# Altium integrated library Oscillators - Crystals.IntLib: 746 symbols (part 3 of 17)
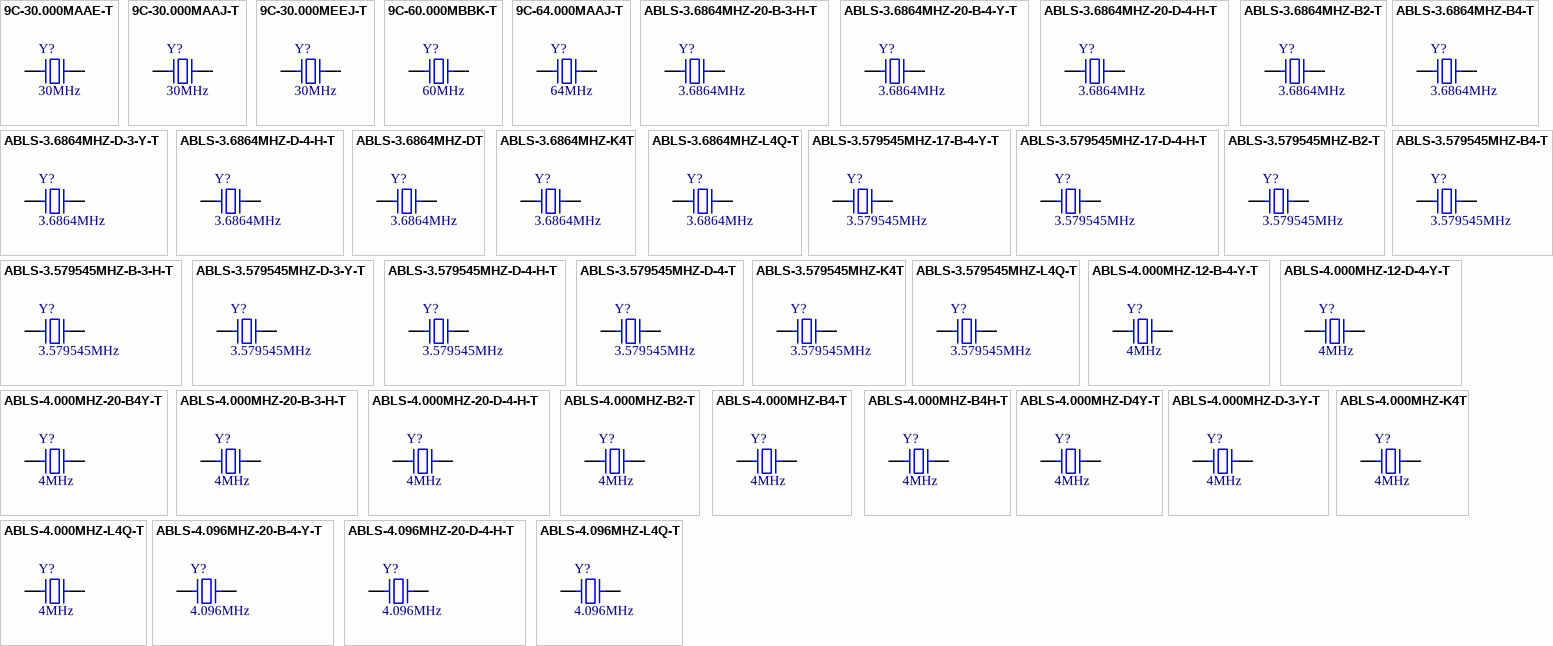
[diagram p20: symbols 9C-30.000MAAE-T to ABLS-4.096MHZ-L4Q-T]

## ABLS-3.6864MHZ-DT
designator Y?, comment 3.6864MHz
CRYSTAL 3.6864MHZ 18PF SMD; Part Number: ABLS-3.6864MHZ-DT; Manufacturer: Abracon LLC; ESR (Equivalent Series Resistance): 180 Ohms; Frequency Stability: ±50ppm; Operating Mode: Fundamental; ComponentLink1Description: Datasheet; ComponentLink1URL: https://abracon.com/Resonators/abls.pdf; ComponentLink2Description: DigiKey Link; ComponentLink2URL: http://digikey.com/product-detail/en/abracon-llc/ABLS-3.6864MHZ-DT/535-13441-1-ND/5980117; Frequency: 3.6864MHz; Frequency Tolerance: ±50ppm; Height - Seated (Max): 0.165" (4.20mm); LastUpdated: 9/2/2020 1:21:45 AM; Lifecycle Status: Active; Load Capacitance: 18pF; Minimum Order: 0; Mounting Type: Surface Mount; Operating Temperature: -40°C ~ 85°C; Package / Case: HC-49/US; Packaging: TapeAndReel; PartId: 120; Part Status: Active; Price: 0.18; Series: ABLS; Size / Dimension: 0.449" L x 0.185" W (11.40mm x 4.70mm); Supplier 1: DigiKey; Supplier Part Number 1: 535-13441-1-ND; Type: MHz Crystal; Value: 3.6864MHz
footprint ABRACON ABLS
pins: 1, 2

## ABLS-3.6864MHZ-K4T
designator Y?, comment 3.6864MHz
CRYSTAL 3.6864MHZ 18PF SMD; Part Number: ABLS-3.6864MHZ-K4T; Manufacturer: Abracon LLC; ESR (Equivalent Series Resistance): 180 Ohms; Frequency Stability: ±50ppm; Frequency Tolerance: ±30ppm; Operating Mode: Fundamental; ComponentLink1Description: Datasheet; ComponentLink1URL: https://abracon.com/Resonators/abls.pdf; ComponentLink2Description: DigiKey Link; ComponentLink2URL: http://digikey.com/product-detail/en/abracon-llc/ABLS-3.6864MHZ-K4T/535-9929-1-ND/2001552; Frequency: 3.6864MHz; Height - Seated (Max): 0.165" (4.20mm); LastUpdated: 9/2/2020 1:21:44 AM; Lifecycle Status: Active; Load Capacitance: 18pF; Minimum Order: 1; Mounting Type: Surface Mount; Operating Temperature: -40°C ~ 125°C; Package / Case: HC-49/US; Packaging: TapeAndReel; PartId: 245; Part Status: Active; Price: 0.41; Series: ABLS; Size / Dimension: 0.449" L x 0.185" W (11.40mm x 4.70mm); Supplier 1: DigiKey; Supplier Part Number 1: 535-9929-1-ND; Type: MHz Crystal; Value: 3.6864MHz
footprint ABRACON ABLS
pins: 1, 2

## ABLS-3.6864MHZ-L4Q-T
designator Y?, comment 3.6864MHz
CRYSTAL 3.6864MHZ 18PF SMD; Part Number: ABLS-3.6864MHZ-L4Q-T; Manufacturer: Abracon LLC; ESR (Equivalent Series Resistance): 180 Ohms; Frequency Stability: ±100ppm; Frequency Tolerance: ±30ppm; Operating Mode: Fundamental; ComponentLink1Description: Datasheet; ComponentLink1URL: https://abracon.com/Resonators/abls.pdf; ComponentLink2Description: DigiKey Link; ComponentLink2URL: http://digikey.com/product-detail/en/abracon-llc/ABLS-3.6864MHZ-L4Q-T/535-9893-1-ND/2001516; Frequency: 3.6864MHz; Height - Seated (Max): 0.165" (4.20mm); LastUpdated: 9/2/2020 1:21:44 AM; Lifecycle Status: Active; Load Capacitance: 18pF; Minimum Order: 1; Mounting Type: Surface Mount; Operating Temperature: -55°C ~ 125°C; Package / Case: HC-49/US; Packaging: TapeAndReel; PartId: 250; Part Status: Active; Price: 0.42; Series: ABLS; Size / Dimension: 0.449" L x 0.185" W (11.40mm x 4.70mm); Supplier 1: DigiKey; Supplier Part Number 1: 535-9893-1-ND; Type: MHz Crystal; Value: 3.6864MHz
footprint ABRACON ABLS
pins: 1, 2

## ABLS-3.579545MHZ-17-B-4-Y-T
designator Y?, comment 3.579545MHz
CRYSTAL 3.579545MHZ 17PF SMD; Part Number: ABLS-3.579545MHZ-17-B-4-Y-T; Manufacturer: Abracon LLC; ESR (Equivalent Series Resistance): 180 Ohms; Frequency Stability: ±30ppm; Operating Mode: Fundamental; ComponentLink1Description: Datasheet; ComponentLink1URL: https://abracon.com/Resonators/abls.pdf; ComponentLink2Description: DigiKey Link; ComponentLink2URL: http://digikey.com/product-detail/en/abracon-llc/ABLS-3.579545MHZ-17-B-4-Y-T/535-14908-1-ND/9997985; Frequency: 3.579545MHz; Frequency Tolerance: ±30ppm; Height - Seated (Max): 0.165" (4.20mm); LastUpdated: 9/2/2020 1:21:46 AM; Lifecycle Status: Active; Load Capacitance: 17pF; Minimum Order: 1; Mounting Type: Surface Mount; Operating Temperature: -20°C ~ 70°C; Package / Case: HC-49/US; Packaging: TapeAndReel; PartId: 49; Part Status: Active; Price: 0.18; Series: ABLS; Size / Dimension: 0.449" L x 0.185" W (11.40mm x 4.70mm); Supplier 1: DigiKey; Supplier Part Number 1: 535-14908-1-ND; Type: MHz Crystal; Value: 3.579545MHz
footprint ABRACON ABLS
pins: 1, 2

## ABLS-3.579545MHZ-17-D-4-H-T
designator Y?, comment 3.579545MHz
CRYSTAL 3.579545MHZ 17PF SMD; Part Number: ABLS-3.579545MHZ-17-D-4-H-T; Manufacturer: Abracon LLC; ESR (Equivalent Series Resistance): 180 Ohms; Frequency Stability: ±35ppm; Frequency Tolerance: ±30ppm; Operating Mode: Fundamental; ComponentLink1Description: Datasheet; ComponentLink1URL: https://abracon.com/Resonators/abls.pdf; ComponentLink2Description: DigiKey Link; ComponentLink2URL: http://digikey.com/product-detail/en/abracon-llc/ABLS-3.579545MHZ-17-D-4-H-T/535-14909-1-ND/9997986; Frequency: 3.579545MHz; Height - Seated (Max): 0.165" (4.20mm); LastUpdated: 9/2/2020 1:21:46 AM; Lifecycle Status: Active; Load Capacitance: 17pF; Minimum Order: 1; Mounting Type: Surface Mount; Operating Temperature: -40°C ~ 85°C; Package / Case: HC-49/US; Packaging: TapeAndReel; PartId: 84; Part Status: Active; Price: 0.29; Series: ABLS; Size / Dimension: 0.449" L x 0.185" W (11.40mm x 4.70mm); Supplier 1: DigiKey; Supplier Part Number 1: 535-14909-1-ND; Type: MHz Crystal; Value: 3.579545MHz
footprint ABRACON ABLS
pins: 1, 2

## ABLS-3.579545MHZ-B2-T
designator Y?, comment 3.579545MHz
CRYSTAL 3.579545MHZ 18PF SMD; Part Number: ABLS-3.579545MHZ-B2-T; Manufacturer: Abracon LLC; ESR (Equivalent Series Resistance): 180 Ohms; Frequency Stability: ±50ppm; Frequency Tolerance: ±20ppm; Operating Mode: Fundamental; ComponentLink1Description: Datasheet; ComponentLink1URL: https://abracon.com/Resonators/abls.pdf; ComponentLink2Description: DigiKey Link; ComponentLink2URL: http://digikey.com/product-detail/en/abracon-llc/ABLS-3.579545MHZ-B2-T/535-9081-1-ND/675598; Frequency: 3.579545MHz; Height - Seated (Max): 0.165" (4.20mm); LastUpdated: 9/2/2020 1:21:45 AM; Lifecycle Status: Active; Load Capacitance: 18pF; Minimum Order: 1; Mounting Type: Surface Mount; Operating Temperature: -20°C ~ 70°C; Package / Case: HC-49/US; Packaging: TapeAndReel; PartId: 136; Part Status: Active; Price: 0.24; Series: ABLS; Size / Dimension: 0.449" L x 0.185" W (11.40mm x 4.70mm); Supplier 1: DigiKey; Supplier Part Number 1: 535-9081-1-ND; Type: MHz Crystal; Value: 3.579545MHz
footprint ABRACON ABLS
pins: 1, 2

## ABLS-3.579545MHZ-B4-T
designator Y?, comment 3.579545MHz
CRYSTAL 3.579545MHZ 18PF SMD; Part Number: ABLS-3.579545MHZ-B4-T; Manufacturer: Abracon LLC; ESR (Equivalent Series Resistance): 180 Ohms; Frequency Stability: ±50ppm; Frequency Tolerance: ±30ppm; Operating Mode: Fundamental; ComponentLink1Description: Datasheet; ComponentLink1URL: https://abracon.com/Resonators/abls.pdf; ComponentLink2Description: DigiKey Link; ComponentLink2URL: http://digikey.com/product-detail/en/abracon-llc/ABLS-3.579545MHZ-B4-T/535-10200-1-ND/2184235; Frequency: 3.579545MHz; Height - Seated (Max): 0.165" (4.20mm); LastUpdated: 9/2/2020 1:21:45 AM; Lifecycle Status: Active; Load Capacitance: 18pF; Minimum Order: 1; Mounting Type: Surface Mount; Operating Temperature: -20°C ~ 70°C; Package / Case: HC-49/US; Packaging: TapeAndReel; PartId: 106; Part Status: Active; Price: 0.18; Series: ABLS; Size / Dimension: 0.449" L x 0.185" W (11.40mm x 4.70mm); Supplier 1: DigiKey; Supplier Part Number 1: 535-10200-1-ND; Type: MHz Crystal; Value: 3.579545MHz
footprint ABRACON ABLS
pins: 1, 2

## ABLS-3.579545MHZ-B-3-H-T
designator Y?, comment 3.579545MHz
CRYSTAL 3.579545MHZ 18PF SMD; Part Number: ABLS-3.579545MHZ-B-3-H-T; Manufacturer: Abracon LLC; ESR (Equivalent Series Resistance): 180 Ohms; Frequency Stability: ±35ppm; Frequency Tolerance: ±25ppm; Operating Mode: Fundamental; ComponentLink1Description: Datasheet; ComponentLink1URL: https://abracon.com/Resonators/abls.pdf; ComponentLink2Description: DigiKey Link; ComponentLink2URL: http://digikey.com/product-detail/en/abracon-llc/ABLS-3.579545MHZ-B-3-H-T/535-14910-1-ND/9997987; Frequency: 3.579545MHz; Height - Seated (Max): 0.165" (4.20mm); LastUpdated: 9/2/2020 1:21:46 AM; Lifecycle Status: Active; Load Capacitance: 18pF; Minimum Order: 1; Mounting Type: Surface Mount; Operating Temperature: -20°C ~ 70°C; Package / Case: HC-49/US; Packaging: TapeAndReel; PartId: 32; Part Status: Active; Price: 0.12; Series: ABLS; Size / Dimension: 0.449" L x 0.185" W (11.40mm x 4.70mm); Supplier 1: DigiKey; Supplier Part Number 1: 535-14910-1-ND; Type: MHz Crystal; Value: 3.579545MHz
footprint ABRACON ABLS
pins: 1, 2

## ABLS-3.579545MHZ-D-3-Y-T
designator Y?, comment 3.579545MHz
CRYSTAL 3.579545MHZ 18PF SMD; Part Number: ABLS-3.579545MHZ-D-3-Y-T; Manufacturer: Abracon LLC; ESR (Equivalent Series Resistance): 180 Ohms; Frequency Stability: ±30ppm; Frequency Tolerance: ±25ppm; Operating Mode: Fundamental; ComponentLink1Description: Datasheet; ComponentLink1URL: https://abracon.com/Resonators/abls.pdf; ComponentLink2Description: DigiKey Link; ComponentLink2URL: http://digikey.com/product-detail/en/abracon-llc/ABLS-3.579545MHZ-D-3-Y-T/535-14911-1-ND/9997988; Frequency: 3.579545MHz; Height - Seated (Max): 0.165" (4.20mm); LastUpdated: 9/2/2020 1:21:46 AM; Lifecycle Status: Active; Load Capacitance: 18pF; Minimum Order: 1; Mounting Type: Surface Mount; Operating Temperature: -40°C ~ 85°C; Package / Case: HC-49/US; Packaging: TapeAndReel; PartId: 66; Part Status: Active; Price: 0.12; Series: ABLS; Size / Dimension: 0.449" L x 0.185" W (11.40mm x 4.70mm); Supplier 1: DigiKey; Supplier Part Number 1: 535-14911-1-ND; Type: MHz Crystal; Value: 3.579545MHz
footprint ABRACON ABLS
pins: 1, 2

## ABLS-3.579545MHZ-D-4-H-T
designator Y?, comment 3.579545MHz
CRYSTAL 3.579545MHZ 18PF SMD; Part Number: ABLS-3.579545MHZ-D-4-H-T; Manufacturer: Abracon LLC; ESR (Equivalent Series Resistance): 180 Ohms; Frequency Stability: ±35ppm; Frequency Tolerance: ±30ppm; Operating Mode: Fundamental; ComponentLink1Description: Datasheet; ComponentLink1URL: https://abracon.com/Resonators/abls.pdf; ComponentLink2Description: DigiKey Link; ComponentLink2URL: http://digikey.com/product-detail/en/abracon-llc/ABLS-3.579545MHZ-D-4-H-T/535-14912-1-ND/9997989; Frequency: 3.579545MHz; Height - Seated (Max): 0.165" (4.20mm); LastUpdated: 9/2/2020 1:21:45 AM; Lifecycle Status: Active; Load Capacitance: 18pF; Minimum Order: 1; Mounting Type: Surface Mount; Operating Temperature: -40°C ~ 85°C; Package / Case: HC-49/US; Packaging: TapeAndReel; PartId: 152; Part Status: Active; Price: 0.36; Series: ABLS; Size / Dimension: 0.449" L x 0.185" W (11.40mm x 4.70mm); Supplier 1: DigiKey; Supplier Part Number 1: 535-14912-1-ND; Type: MHz Crystal; Value: 3.579545MHz
footprint ABRACON ABLS
pins: 1, 2

## ABLS-3.579545MHZ-D-4-T
designator Y?, comment 3.579545MHz
CRYSTAL 3.579545MHZ 18PF SMD; Part Number: ABLS-3.579545MHZ-D-4-T; Manufacturer: Abracon LLC; ESR (Equivalent Series Resistance): 180 Ohms; Frequency Stability: ±50ppm; Frequency Tolerance: ±30ppm; Operating Mode: Fundamental; ComponentLink1Description: Datasheet; ComponentLink1URL: https://abracon.com/Resonators/abls.pdf; ComponentLink2Description: DigiKey Link; ComponentLink2URL: http://digikey.com/product-detail/en/abracon-llc/ABLS-3.579545MHZ-D-4-T/535-13440-1-ND/5980116; Frequency: 3.579545MHz; Height - Seated (Max): 0.165" (4.20mm); LastUpdated: 9/2/2020 1:21:46 AM; Lifecycle Status: Active; Load Capacitance: 18pF; Minimum Order: 0; Mounting Type: Surface Mount; Operating Temperature: -40°C ~ 85°C; Package / Case: HC-49/US; Packaging: TapeAndReel; PartId: 3; Part Status: Active; Price: 0.18; Series: ABLS; Size / Dimension: 0.449" L x 0.185" W (11.40mm x 4.70mm); Supplier 1: DigiKey; Supplier Part Number 1: 535-13440-1-ND; Type: MHz Crystal; Value: 3.579545MHz
footprint ABRACON ABLS
pins: 1, 2

## ABLS-3.579545MHZ-K4T
designator Y?, comment 3.579545MHz
CRYSTAL 3.579545MHZ 18PF SMD; Part Number: ABLS-3.579545MHZ-K4T; Manufacturer: Abracon LLC; ESR (Equivalent Series Resistance): 180 Ohms; Frequency Stability: ±50ppm; Frequency Tolerance: ±30ppm; Operating Mode: Fundamental; ComponentLink1Description: Datasheet; ComponentLink1URL: https://abracon.com/Resonators/abls.pdf; ComponentLink2Description: DigiKey Link; ComponentLink2URL: http://digikey.com/product-detail/en/abracon-llc/ABLS-3.579545MHZ-K4T/535-9928-1-ND/2001551; Frequency: 3.579545MHz; Height - Seated (Max): 0.165" (4.20mm); LastUpdated: 9/2/2020 1:21:44 AM; Lifecycle Status: Active; Load Capacitance: 18pF; Minimum Order: 1; Mounting Type: Surface Mount; Operating Temperature: -40°C ~ 125°C; Package / Case: HC-49/US; Packaging: TapeAndReel; PartId: 197; Part Status: Active; Price: 0.41; Series: ABLS; Size / Dimension: 0.449" L x 0.185" W (11.40mm x 4.70mm); Supplier 1: DigiKey; Supplier Part Number 1: 535-9928-1-ND; Type: MHz Crystal; Value: 3.579545MHz
footprint ABRACON ABLS
pins: 1, 2

## ABLS-3.579545MHZ-L4Q-T
designator Y?, comment 3.579545MHz
CRYSTAL 3.579545MHZ 18PF SMD; Part Number: ABLS-3.579545MHZ-L4Q-T; Manufacturer: Abracon LLC; ESR (Equivalent Series Resistance): 180 Ohms; Frequency Stability: ±100ppm; Frequency Tolerance: ±30ppm; Operating Mode: Fundamental; ComponentLink1Description: Datasheet; ComponentLink1URL: https://abracon.com/Resonators/abls.pdf; ComponentLink2Description: DigiKey Link; ComponentLink2URL: http://digikey.com/product-detail/en/abracon-llc/ABLS-3.579545MHZ-L4Q-T/535-9892-1-ND/2001515; Frequency: 3.579545MHz; Height - Seated (Max): 0.165" (4.20mm); LastUpdated: 9/2/2020 1:21:44 AM; Lifecycle Status: Active; Load Capacitance: 18pF; Minimum Order: 1; Mounting Type: Surface Mount; Operating Temperature: -55°C ~ 125°C; Package / Case: HC-49/US; Packaging: TapeAndReel; PartId: 251; Part Status: Active; Price: 0.42; Series: ABLS; Size / Dimension: 0.449" L x 0.185" W (11.40mm x 4.70mm); Supplier 1: DigiKey; Supplier Part Number 1: 535-9892-1-ND; Type: MHz Crystal; Value: 3.579545MHz
footprint ABRACON ABLS
pins: 1, 2

## ABLS-4.000MHZ-12-B-4-Y-T
designator Y?, comment 4MHz
CRYSTAL 4.0000MHZ 12PF SMD; Part Number: ABLS-4.000MHZ-12-B-4-Y-T; Manufacturer: Abracon LLC; ESR (Equivalent Series Resistance): 180 Ohms; Frequency Stability: ±30ppm; Operating Mode: Fundamental; ComponentLink1Description: Datasheet; ComponentLink1URL: https://abracon.com/Resonators/abls.pdf; ComponentLink2Description: DigiKey Link; ComponentLink2URL: http://digikey.com/product-detail/en/abracon-llc/ABLS-4.000MHZ-12-B-4-Y-T/535-14917-1-ND/9997994; Frequency: 4MHz; Frequency Tolerance: ±30ppm; Height - Seated (Max): 0.165" (4.20mm); LastUpdated: 9/2/2020 1:21:45 AM; Lifecycle Status: Active; Load Capacitance: 12pF; Minimum Order: 1; Mounting Type: Surface Mount; Operating Temperature: -20°C ~ 70°C; Package / Case: HC-49/US; Packaging: TapeAndReel; PartId: 150; Part Status: Active; Price: 0.17; Series: ABLS; Size / Dimension: 0.449" L x 0.185" W (11.40mm x 4.70mm); Supplier 1: DigiKey; Supplier Part Number 1: 535-14917-1-ND; Type: MHz Crystal; Value: 4MHz
footprint ABRACON ABLS
pins: 1, 2

## ABLS-4.000MHZ-12-D-4-Y-T
designator Y?, comment 4MHz
CRYSTAL 4.0000MHZ 12PF SMD; Part Number: ABLS-4.000MHZ-12-D-4-Y-T; Manufacturer: Abracon LLC; ESR (Equivalent Series Resistance): 180 Ohms; Frequency Stability: ±30ppm; Operating Mode: Fundamental; ComponentLink1Description: Datasheet; ComponentLink1URL: https://abracon.com/Resonators/abls.pdf; ComponentLink2Description: DigiKey Link; ComponentLink2URL: http://digikey.com/product-detail/en/abracon-llc/ABLS-4.000MHZ-12-D-4-Y-T/535-14918-1-ND/9997995; Frequency: 4MHz; Frequency Tolerance: ±30ppm; Height - Seated (Max): 0.165" (4.20mm); LastUpdated: 9/2/2020 1:21:45 AM; Lifecycle Status: Active; Load Capacitance: 12pF; Minimum Order: 1; Mounting Type: Surface Mount; Operating Temperature: -40°C ~ 85°C; Package / Case: HC-49/US; Packaging: TapeAndReel; PartId: 186; Part Status: Active; Price: 0.27; Series: ABLS; Size / Dimension: 0.449" L x 0.185" W (11.40mm x 4.70mm); Supplier 1: DigiKey; Supplier Part Number 1: 535-14918-1-ND; Type: MHz Crystal; Value: 4MHz
footprint ABRACON ABLS
pins: 1, 2

## ABLS-4.000MHZ-20-B4Y-T
designator Y?, comment 4MHz
CRYSTAL 4.000MHZ 20PF SMD; Part Number: ABLS-4.000MHZ-20-B4Y-T; Manufacturer: Abracon LLC; ESR (Equivalent Series Resistance): 180 Ohms; Frequency Stability: ±30ppm; Operating Mode: Fundamental; ComponentLink1Description: Datasheet; ComponentLink1URL: https://abracon.com/Resonators/abls.pdf; ComponentLink2Description: DigiKey Link; ComponentLink2URL: http://digikey.com/product-detail/en/abracon-llc/ABLS-4.000MHZ-20-B4Y-T/535-14359-1-ND/8582120; Frequency: 4MHz; Frequency Tolerance: ±30ppm; Height - Seated (Max): 0.165" (4.20mm); LastUpdated: 9/2/2020 1:21:44 AM; Lifecycle Status: Active; Load Capacitance: 20pF; Minimum Order: 1; Mounting Type: Surface Mount; Operating Temperature: -20°C ~ 70°C; Package / Case: HC-49/US; Packaging: TapeAndReel; PartId: 260; Part Status: Active; Price: 0.24; Series: ABLS; Size / Dimension: 0.449" L x 0.185" W (11.40mm x 4.70mm); Supplier 1: DigiKey; Supplier Part Number 1: 535-14359-1-ND; Type: MHz Crystal; Value: 4MHz
footprint ABRACON ABLS
pins: 1, 2

## ABLS-4.000MHZ-20-B-3-H-T
designator Y?, comment 4MHz
CRYSTAL 4.0000MHZ 20PF SMD; Part Number: ABLS-4.000MHZ-20-B-3-H-T; Manufacturer: Abracon LLC; ESR (Equivalent Series Resistance): 180 Ohms; Frequency Stability: ±35ppm; Frequency Tolerance: ±25ppm; Operating Mode: Fundamental; ComponentLink1Description: Datasheet; ComponentLink1URL: https://abracon.com/Resonators/abls.pdf; ComponentLink2Description: DigiKey Link; ComponentLink2URL: http://digikey.com/product-detail/en/abracon-llc/ABLS-4.000MHZ-20-B-3-H-T/535-14919-1-ND/9997996; Frequency: 4MHz; Height - Seated (Max): 0.165" (4.20mm); LastUpdated: 9/2/2020 1:21:46 AM; Lifecycle Status: Active; Load Capacitance: 20pF; Minimum Order: 1; Mounting Type: Surface Mount; Operating Temperature: -20°C ~ 70°C; Package / Case: HC-49/US; Packaging: TapeAndReel; PartId: 63; Part Status: Active; Price: 0.11; Series: ABLS; Size / Dimension: 0.449" L x 0.185" W (11.40mm x 4.70mm); Supplier 1: DigiKey; Supplier Part Number 1: 535-14919-1-ND; Type: MHz Crystal; Value: 4MHz
footprint ABRACON ABLS
pins: 1, 2

## ABLS-4.000MHZ-20-D-4-H-T
designator Y?, comment 4MHz
CRYSTAL 4.0000MHZ 20PF SMD; Part Number: ABLS-4.000MHZ-20-D-4-H-T; Manufacturer: Abracon LLC; ESR (Equivalent Series Resistance): 180 Ohms; Frequency Stability: ±35ppm; Frequency Tolerance: ±30ppm; Operating Mode: Fundamental; ComponentLink1Description: Datasheet; ComponentLink1URL: https://abracon.com/Resonators/abls.pdf; ComponentLink2Description: DigiKey Link; ComponentLink2URL: http://digikey.com/product-detail/en/abracon-llc/ABLS-4.000MHZ-20-D-4-H-T/535-14920-1-ND/9997997; Frequency: 4MHz; Height - Seated (Max): 0.165" (4.20mm); LastUpdated: 9/2/2020 1:21:46 AM; Lifecycle Status: Active; Load Capacitance: 20pF; Minimum Order: 1; Mounting Type: Surface Mount; Operating Temperature: -40°C ~ 85°C; Package / Case: HC-49/US; Packaging: TapeAndReel; PartId: 85; Part Status: Active; Price: 0.29; Series: ABLS; Size / Dimension: 0.449" L x 0.185" W (11.40mm x 4.70mm); Supplier 1: DigiKey; Supplier Part Number 1: 535-14920-1-ND; Type: MHz Crystal; Value: 4MHz
footprint ABRACON ABLS
pins: 1, 2

## ABLS-4.000MHZ-B2-T
designator Y?, comment 4MHz
CRYSTAL 4.0000MHZ 18PF SMD; Part Number: ABLS-4.000MHZ-B2-T; Manufacturer: Abracon LLC; ESR (Equivalent Series Resistance): 180 Ohms; Frequency Stability: ±50ppm; Frequency Tolerance: ±20ppm; Operating Mode: Fundamental; ComponentLink1Description: Datasheet; ComponentLink1URL: https://abracon.com/Resonators/abls.pdf; ComponentLink2Description: DigiKey Link; ComponentLink2URL: http://digikey.com/product-detail/en/abracon-llc/ABLS-4.000MHZ-B2-T/535-9085-1-ND/675602; Frequency: 4MHz; Height - Seated (Max): 0.165" (4.20mm); LastUpdated: 9/2/2020 1:21:45 AM; Lifecycle Status: Active; Load Capacitance: 18pF; Minimum Order: 1; Mounting Type: Surface Mount; Operating Temperature: -20°C ~ 70°C; Package / Case: HC-49/US; Packaging: TapeAndReel; PartId: 127; Part Status: Active; Price: 0.24; Series: ABLS; Size / Dimension: 0.449" L x 0.185" W (11.40mm x 4.70mm); Supplier 1: DigiKey; Supplier Part Number 1: 535-9085-1-ND; Type: MHz Crystal; Value: 4MHz
footprint ABRACON ABLS
pins: 1, 2

## ABLS-4.000MHZ-B4-T
designator Y?, comment 4MHz
CRYSTAL 4.0000MHZ 18PF SMD; Part Number: ABLS-4.000MHZ-B4-T; Manufacturer: Abracon LLC; ESR (Equivalent Series Resistance): 180 Ohms; Frequency Stability: ±50ppm; Frequency Tolerance: ±30ppm; Operating Mode: Fundamental; ComponentLink1Description: Datasheet; ComponentLink1URL: https://abracon.com/Resonators/abls.pdf; ComponentLink2Description: DigiKey Link; ComponentLink2URL: http://digikey.com/product-detail/en/abracon-llc/ABLS-4.000MHZ-B4-T/535-10202-1-ND/2184237; Frequency: 4MHz; Height - Seated (Max): 0.165" (4.20mm); LastUpdated: 9/2/2020 1:21:45 AM; Lifecycle Status: Active; Load Capacitance: 18pF; Minimum Order: 1; Mounting Type: Surface Mount; Operating Temperature: -20°C ~ 70°C; Package / Case: HC-49/US; Packaging: TapeAndReel; PartId: 95; Part Status: Active; Price: 0.18; Series: ABLS; Size / Dimension: 0.449" L x 0.185" W (11.40mm x 4.70mm); Supplier 1: DigiKey; Supplier Part Number 1: 535-10202-1-ND; Type: MHz Crystal; Value: 4MHz
footprint ABRACON ABLS
pins: 1, 2

## ABLS-4.000MHZ-B4H-T
designator Y?, comment 4MHz
CRYSTAL 4.0000MHZ 18PF SMD; Part Number: ABLS-4.000MHZ-B4H-T; Manufacturer: Abracon LLC; ESR (Equivalent Series Resistance): 180 Ohms; Frequency Stability: ±35ppm; Frequency Tolerance: ±30ppm; Operating Mode: Fundamental; ComponentLink1Description: Datasheet; ComponentLink1URL: https://abracon.com/Resonators/abls.pdf; ComponentLink2Description: DigiKey Link; ComponentLink2URL: http://digikey.com/product-detail/en/abracon-llc/ABLS-4.000MHZ-B4H-T/535-14858-1-ND/9997935; Frequency: 4MHz; Height - Seated (Max): 0.165" (4.20mm); LastUpdated: 9/2/2020 1:21:46 AM; Lifecycle Status: Active; Load Capacitance: 18pF; Minimum Order: 0; Mounting Type: Surface Mount; Operating Temperature: -20°C ~ 70°C; Package / Case: HC-49/US; Packaging: TapeAndReel; PartId: 47; Part Status: Active; Price: 0.18; Series: ABLS; Size / Dimension: 0.449" L x 0.185" W (11.40mm x 4.70mm); Supplier 1: DigiKey; Supplier Part Number 1: 535-14858-1-ND; Type: MHz Crystal; Value: 4MHz
footprint ABRACON ABLS
pins: 1, 2

## ABLS-4.000MHZ-D4Y-T
designator Y?, comment 4MHz
CRYSTAL 4.0000MHZ 18PF SMD; Part Number: ABLS-4.000MHZ-D4Y-T; Manufacturer: Abracon LLC; ESR (Equivalent Series Resistance): 180 Ohms; Frequency Stability: ±30ppm; Operating Mode: Fundamental; ComponentLink1Description: Datasheet; ComponentLink1URL: https://abracon.com/Resonators/abls.pdf; ComponentLink2Description: DigiKey Link; ComponentLink2URL: http://digikey.com/product-detail/en/abracon-llc/ABLS-4.000MHZ-D4Y-T/535-15001-1-ND/9998078; Frequency: 4MHz; Frequency Tolerance: ±30ppm; Height - Seated (Max): 0.165" (4.20mm); LastUpdated: 9/2/2020 1:21:44 AM; Lifecycle Status: Active; Load Capacitance: 18pF; Minimum Order: 0; Mounting Type: Surface Mount; Operating Temperature: -40°C ~ 85°C; Package / Case: HC-49/US; Packaging: TapeAndReel; PartId: 231; Part Status: Active; Price: 0.27; Series: ABLS; Size / Dimension: 0.449" L x 0.185" W (11.40mm x 4.70mm); Supplier 1: DigiKey; Supplier Part Number 1: 535-15001-1-ND; Type: MHz Crystal; Value: 4MHz
footprint ABRACON ABLS
pins: 1, 2

## ABLS-4.000MHZ-D-3-Y-T
designator Y?, comment 4MHz
CRYSTAL 4.0000MHZ 18PF SMD; Part Number: ABLS-4.000MHZ-D-3-Y-T; Manufacturer: Abracon LLC; ESR (Equivalent Series Resistance): 180 Ohms; Frequency Stability: ±30ppm; Frequency Tolerance: ±25ppm; Operating Mode: Fundamental; ComponentLink1Description: Datasheet; ComponentLink1URL: https://abracon.com/Resonators/abls.pdf; ComponentLink2Description: DigiKey Link; ComponentLink2URL: http://digikey.com/product-detail/en/abracon-llc/ABLS-4.000MHZ-D-3-Y-T/535-14921-1-ND/9997998; Frequency: 4MHz; Height - Seated (Max): 0.165" (4.20mm); LastUpdated: 9/2/2020 1:21:46 AM; Lifecycle Status: Active; Load Capacitance: 18pF; Minimum Order: 1; Mounting Type: Surface Mount; Operating Temperature: -40°C ~ 85°C; Package / Case: HC-49/US; Packaging: TapeAndReel; PartId: 69; Part Status: Active; Price: 0.12; Series: ABLS; Size / Dimension: 0.449" L x 0.185" W (11.40mm x 4.70mm); Supplier 1: DigiKey; Supplier Part Number 1: 535-14921-1-ND; Type: MHz Crystal; Value: 4MHz
footprint ABRACON ABLS
pins: 1, 2

## ABLS-4.000MHZ-K4T
designator Y?, comment 4MHz
CRYSTAL 4.0000MHZ 18PF SMD; Part Number: ABLS-4.000MHZ-K4T; Manufacturer: Abracon LLC; ESR (Equivalent Series Resistance): 180 Ohms; Frequency Stability: ±50ppm; Frequency Tolerance: ±30ppm; Operating Mode: Fundamental; ComponentLink1Description: Datasheet; ComponentLink1URL: https://abracon.com/Resonators/abls.pdf; ComponentLink2Description: DigiKey Link; ComponentLink2URL: http://digikey.com/product-detail/en/abracon-llc/ABLS-4.000MHZ-K4T/535-9930-1-ND/2001553; Frequency: 4MHz; Height - Seated (Max): 0.165" (4.20mm); LastUpdated: 9/2/2020 1:21:44 AM; Lifecycle Status: Active; Load Capacitance: 18pF; Minimum Order: 1; Mounting Type: Surface Mount; Operating Temperature: -40°C ~ 125°C; Package / Case: HC-49/US; Packaging: TapeAndReel; PartId: 242; Part Status: Active; Price: 0.41; Series: ABLS; Size / Dimension: 0.449" L x 0.185" W (11.40mm x 4.70mm); Supplier 1: DigiKey; Supplier Part Number 1: 535-9930-1-ND; Type: MHz Crystal; Value: 4MHz
footprint ABRACON ABLS
pins: 1, 2

## ABLS-4.000MHZ-L4Q-T
designator Y?, comment 4MHz
CRYSTAL 4.0000MHZ 18PF SMD; Part Number: ABLS-4.000MHZ-L4Q-T; Manufacturer: Abracon LLC; ESR (Equivalent Series Resistance): 180 Ohms; Frequency Stability: ±100ppm; Frequency Tolerance: ±30ppm; Operating Mode: Fundamental; ComponentLink1Description: Datasheet; ComponentLink1URL: https://abracon.com/Resonators/abls.pdf; ComponentLink2Description: DigiKey Link; ComponentLink2URL: http://digikey.com/product-detail/en/abracon-llc/ABLS-4.000MHZ-L4Q-T/535-9894-2-ND/2001261; Frequency: 4MHz; Height - Seated (Max): 0.165" (4.20mm); LastUpdated: 9/2/2020 1:21:44 AM; Lifecycle Status: Active; Load Capacitance: 18pF; Minimum Order: 0; Mounting Type: Surface Mount; Operating Temperature: -55°C ~ 125°C; Package / Case: HC-49/US; Packaging: TapeAndReel; PartId: 205; Part Status: Active; Price: 0.42; Series: ABLS; Size / Dimension: 0.449" L x 0.185" W (11.40mm x 4.70mm); Supplier 1: DigiKey; Supplier Part Number 1: 535-9894-2-ND; Type: MHz Crystal; Value: 4MHz
footprint ABRACON ABLS
pins: 1, 2

## ABLS-4.096MHZ-20-B-4-Y-T
designator Y?, comment 4.096MHz
CRYSTAL 4.0960MHZ 20PF SMD; Part Number: ABLS-4.096MHZ-20-B-4-Y-T; Manufacturer: Abracon LLC; ESR (Equivalent Series Resistance): 180 Ohms; Frequency Stability: ±30ppm; Operating Mode: Fundamental; ComponentLink1Description: Datasheet; ComponentLink1URL: https://abracon.com/Resonators/abls.pdf; ComponentLink2Description: DigiKey Link; ComponentLink2URL: http://digikey.com/product-detail/en/abracon-llc/ABLS-4.096MHZ-20-B-4-Y-T/535-14922-1-ND/9997999; Frequency: 4.096MHz; Frequency Tolerance: ±30ppm; Height - Seated (Max): 0.165" (4.20mm); LastUpdated: 9/2/2020 1:21:46 AM; Lifecycle Status: Active; Load Capacitance: 20pF; Minimum Order: 1; Mounting Type: Surface Mount; Operating Temperature: -20°C ~ 70°C; Package / Case: HC-49/US; Packaging: TapeAndReel; PartId: 46; Part Status: Active; Price: 0.18; Series: ABLS; Size / Dimension: 0.449" L x 0.185" W (11.40mm x 4.70mm); Supplier 1: DigiKey; Supplier Part Number 1: 535-14922-1-ND; Type: MHz Crystal; Value: 4.096MHz
footprint ABRACON ABLS
pins: 1, 2

## ABLS-4.096MHZ-20-D-4-H-T
designator Y?, comment 4.096MHz
CRYSTAL 4.0960MHZ 20PF SMD; Part Number: ABLS-4.096MHZ-20-D-4-H-T; Manufacturer: Abracon LLC; ESR (Equivalent Series Resistance): 180 Ohms; Frequency Stability: ±35ppm; Frequency Tolerance: ±30ppm; Operating Mode: Fundamental; ComponentLink1Description: Datasheet; ComponentLink1URL: https://abracon.com/Resonators/abls.pdf; ComponentLink2Description: DigiKey Link; ComponentLink2URL: http://digikey.com/product-detail/en/abracon-llc/ABLS-4.096MHZ-20-D-4-H-T/535-14923-1-ND/9998000; Frequency: 4.096MHz; Height - Seated (Max): 0.165" (4.20mm); LastUpdated: 9/2/2020 1:21:45 AM; Lifecycle Status: Active; Load Capacitance: 20pF; Minimum Order: 1; Mounting Type: Surface Mount; Operating Temperature: -40°C ~ 85°C; Package / Case: HC-49/US; Packaging: TapeAndReel; PartId: 173; Part Status: Active; Price: 0.40; Series: ABLS; Size / Dimension: 0.449" L x 0.185" W (11.40mm x 4.70mm); Supplier 1: DigiKey; Supplier Part Number 1: 535-14923-1-ND; Type: MHz Crystal; Value: 4.096MHz
footprint ABRACON ABLS
pins: 1, 2

## ABLS-4.096MHZ-L4Q-T
designator Y?, comment 4.096MHz
CRYSTAL 4.0960MHZ 18PF SMD; Part Number: ABLS-4.096MHZ-L4Q-T; Manufacturer: Abracon LLC; ESR (Equivalent Series Resistance): 180 Ohms; Frequency Stability: ±100ppm; Frequency Tolerance: ±30ppm; Operating Mode: Fundamental; ComponentLink1Description: Datasheet; ComponentLink1URL: https://abracon.com/Resonators/abls.pdf; ComponentLink2Description: DigiKey Link; ComponentLink2URL: http://digikey.com/product-detail/en/abracon-llc/ABLS-4.096MHZ-L4Q-T/535-9895-1-ND/2001518; Frequency: 4.096MHz; Height - Seated (Max): 0.165" (4.20mm); LastUpdated: 9/2/2020 1:21:46 AM; Lifecycle Status: Active; Load Capacitance: 18pF; Minimum Order: 1; Mounting Type: Surface Mount; Operating Temperature: -55°C ~ 125°C; Package / Case: HC-49/US; Packaging: TapeAndReel; PartId: 4; Part Status: Active; Price: 0.42; Series: ABLS; Size / Dimension: 0.449" L x 0.185" W (11.40mm x 4.70mm); Supplier 1: DigiKey; Supplier Part Number 1: 535-9895-1-ND; Type: MHz Crystal; Value: 4.096MHz
footprint ABRACON ABLS
pins: 1, 2

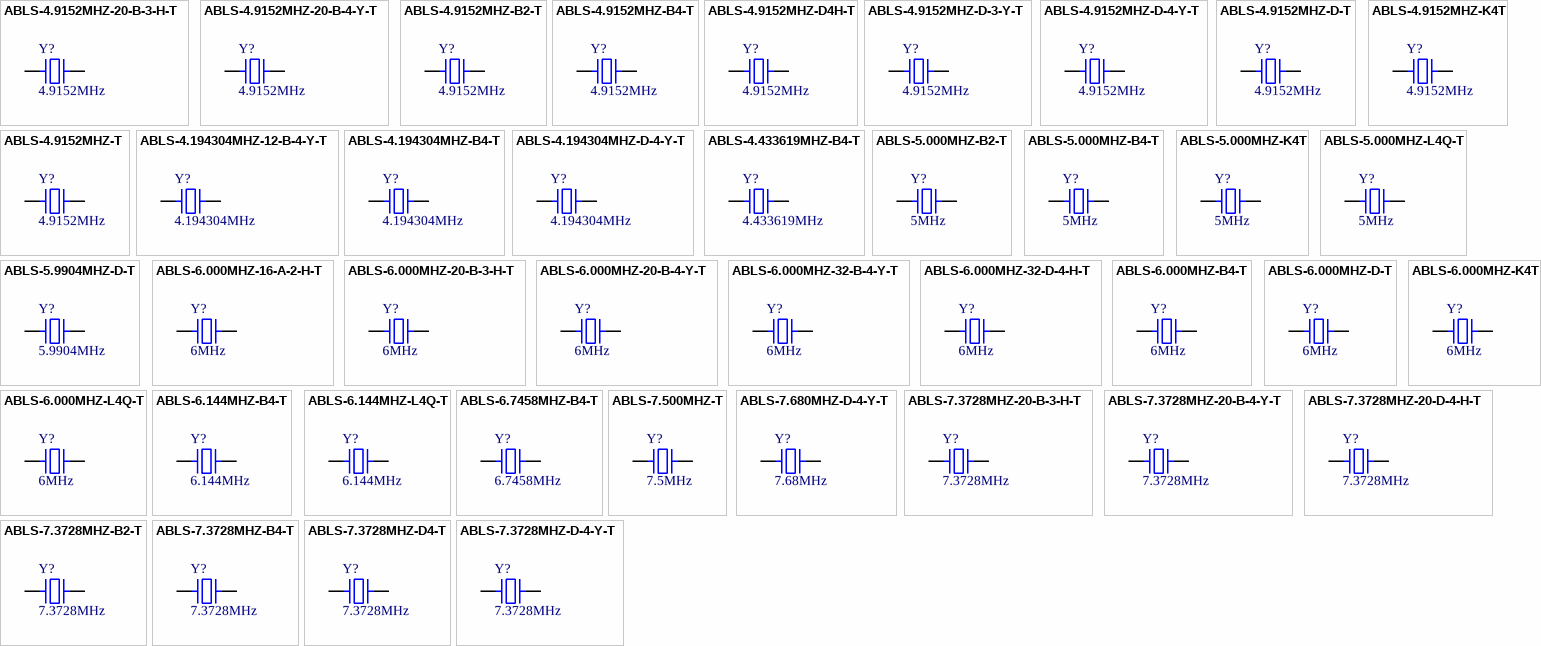
[diagram p3: symbols ABLS-4.9152MHZ-20-B-3-H-T to ABLS-7.3728MHZ-D-4-Y-T]

## ABLS-4.9152MHZ-20-B-3-H-T
designator Y?, comment 4.9152MHz
CRYSTAL 4.9152MHZ 20PF SMD; Part Number: ABLS-4.9152MHZ-20-B-3-H-T; Manufacturer: Abracon LLC; ESR (Equivalent Series Resistance): 180 Ohms; Frequency Stability: ±35ppm; Frequency Tolerance: ±25ppm; Operating Mode: Fundamental; ComponentLink1Description: Datasheet; ComponentLink1URL: https://abracon.com/Resonators/abls.pdf; ComponentLink2Description: DigiKey Link; ComponentLink2URL: http://digikey.com/product-detail/en/abracon-llc/ABLS-4.9152MHZ-20-B-3-H-T/535-14926-1-ND/9998003; Frequency: 4.9152MHz; Height - Seated (Max): 0.165" (4.20mm); LastUpdated: 9/2/2020 1:21:46 AM; Lifecycle Status: Active; Load Capacitance: 20pF; Minimum Order: 1; Mounting Type: Surface Mount; Operating Temperature: -20°C ~ 70°C; Package / Case: HC-49/US; Packaging: TapeAndReel; PartId: 83; Part Status: Active; Price: 0.14; Series: ABLS; Size / Dimension: 0.449" L x 0.185" W (11.40mm x 4.70mm); Supplier 1: DigiKey; Supplier Part Number 1: 535-14926-1-ND; Type: MHz Crystal; Value: 4.9152MHz
footprint ABRACON ABLS
pins: 1, 2

## ABLS-4.9152MHZ-20-B-4-Y-T
designator Y?, comment 4.9152MHz
CRYSTAL 4.9152MHZ 20PF SMD; Part Number: ABLS-4.9152MHZ-20-B-4-Y-T; Manufacturer: Abracon LLC; ESR (Equivalent Series Resistance): 180 Ohms; Frequency Stability: ±30ppm; Operating Mode: Fundamental; ComponentLink1Description: Datasheet; ComponentLink1URL: https://abracon.com/Resonators/abls.pdf; ComponentLink2Description: DigiKey Link; ComponentLink2URL: http://digikey.com/product-detail/en/abracon-llc/ABLS-4.9152MHZ-20-B-4-Y-T/535-14927-1-ND/9998004; Frequency: 4.9152MHz; Frequency Tolerance: ±30ppm; Height - Seated (Max): 0.165" (4.20mm); LastUpdated: 9/2/2020 1:21:46 AM; Lifecycle Status: Active; Load Capacitance: 20pF; Minimum Order: 1; Mounting Type: Surface Mount; Operating Temperature: -20°C ~ 70°C; Package / Case: HC-49/US; Packaging: TapeAndReel; PartId: 39; Part Status: Active; Price: 0.16; Series: ABLS; Size / Dimension: 0.449" L x 0.185" W (11.40mm x 4.70mm); Supplier 1: DigiKey; Supplier Part Number 1: 535-14927-1-ND; Type: MHz Crystal; Value: 4.9152MHz
footprint ABRACON ABLS
pins: 1, 2

## ABLS-4.9152MHZ-B2-T
designator Y?, comment 4.9152MHz
CRYSTAL 4.9152MHZ 18PF SMD; Part Number: ABLS-4.9152MHZ-B2-T; Manufacturer: Abracon LLC; ESR (Equivalent Series Resistance): 180 Ohms; Frequency Stability: ±50ppm; Frequency Tolerance: ±20ppm; Operating Mode: Fundamental; ComponentLink1Description: Datasheet; ComponentLink1URL: https://abracon.com/Resonators/abls.pdf; ComponentLink2Description: DigiKey Link; ComponentLink2URL: http://digikey.com/product-detail/en/abracon-llc/ABLS-4.9152MHZ-B2-T/535-9086-1-ND/675603; Frequency: 4.9152MHz; Height - Seated (Max): 0.165" (4.20mm); LastUpdated: 9/2/2020 1:21:45 AM; Lifecycle Status: Active; Load Capacitance: 18pF; Minimum Order: 1; Mounting Type: Surface Mount; Operating Temperature: -20°C ~ 70°C; Package / Case: HC-49/US; Packaging: TapeAndReel; PartId: 131; Part Status: Active; Price: 0.24; Series: ABLS; Size / Dimension: 0.449" L x 0.185" W (11.40mm x 4.70mm); Supplier 1: DigiKey; Supplier Part Number 1: 535-9086-1-ND; Type: MHz Crystal; Value: 4.9152MHz
footprint ABRACON ABLS
pins: 1, 2

## ABLS-4.9152MHZ-B4-T
designator Y?, comment 4.9152MHz
CRYSTAL 4.9152MHZ 18PF SMD; Part Number: ABLS-4.9152MHZ-B4-T; Manufacturer: Abracon LLC; ESR (Equivalent Series Resistance): 180 Ohms; Frequency Stability: ±50ppm; Frequency Tolerance: ±30ppm; Operating Mode: Fundamental; ComponentLink1Description: Datasheet; ComponentLink1URL: https://abracon.com/Resonators/abls.pdf; ComponentLink2Description: DigiKey Link; ComponentLink2URL: http://digikey.com/product-detail/en/abracon-llc/ABLS-4.9152MHZ-B4-T/535-10206-1-ND/2184241; Frequency: 4.9152MHz; Height - Seated (Max): 0.165" (4.20mm); LastUpdated: 9/2/2020 1:21:45 AM; Lifecycle Status: Active; Load Capacitance: 18pF; Minimum Order: 1; Mounting Type: Surface Mount; Operating Temperature: -20°C ~ 70°C; Package / Case: HC-49/US; Packaging: TapeAndReel; PartId: 117; Part Status: Active; Price: 0.18; Series: ABLS; Size / Dimension: 0.449" L x 0.185" W (11.40mm x 4.70mm); Supplier 1: DigiKey; Supplier Part Number 1: 535-10206-1-ND; Type: MHz Crystal; Value: 4.9152MHz
footprint ABRACON ABLS
pins: 1, 2

## ABLS-4.9152MHZ-D4H-T
designator Y?, comment 4.9152MHz
CRYSTAL 4.9152MHZ 18PF SMD; Part Number: ABLS-4.9152MHZ-D4H-T; Manufacturer: Abracon LLC; ESR (Equivalent Series Resistance): 180 Ohms; Frequency Stability: ±35ppm; Frequency Tolerance: ±30ppm; Operating Mode: Fundamental; ComponentLink1Description: Datasheet; ComponentLink1URL: https://abracon.com/Resonators/abls.pdf; ComponentLink2Description: DigiKey Link; ComponentLink2URL: http://digikey.com/product-detail/en/abracon-llc/ABLS-4.9152MHZ-D4H-T/535-14859-1-ND/9997936; Frequency: 4.9152MHz; Height - Seated (Max): 0.165" (4.20mm); LastUpdated: 9/2/2020 1:21:46 AM; Lifecycle Status: Active; Load Capacitance: 18pF; Minimum Order: 0; Mounting Type: Surface Mount; Operating Temperature: -40°C ~ 85°C; Package / Case: HC-49/US; Packaging: TapeAndReel; PartId: 72; Part Status: Active; Price: 0.26; Series: ABLS; Size / Dimension: 0.449" L x 0.185" W (11.40mm x 4.70mm); Supplier 1: DigiKey; Supplier Part Number 1: 535-14859-1-ND; Type: MHz Crystal; Value: 4.9152MHz
footprint ABRACON ABLS
pins: 1, 2

## ABLS-4.9152MHZ-D-3-Y-T
designator Y?, comment 4.9152MHz
CRYSTAL 4.9152MHZ 18PF SMD; Part Number: ABLS-4.9152MHZ-D-3-Y-T; Manufacturer: Abracon LLC; ESR (Equivalent Series Resistance): 180 Ohms; Frequency Stability: ±30ppm; Frequency Tolerance: ±25ppm; Operating Mode: Fundamental; ComponentLink1Description: Datasheet; ComponentLink1URL: https://abracon.com/Resonators/abls.pdf; ComponentLink2Description: DigiKey Link; ComponentLink2URL: http://digikey.com/product-detail/en/abracon-llc/ABLS-4.9152MHZ-D-3-Y-T/535-14928-1-ND/9998005; Frequency: 4.9152MHz; Height - Seated (Max): 0.165" (4.20mm); LastUpdated: 9/2/2020 1:21:46 AM; Lifecycle Status: Active; Load Capacitance: 18pF; Minimum Order: 1; Mounting Type: Surface Mount; Operating Temperature: -40°C ~ 85°C; Package / Case: HC-49/US; Packaging: TapeAndReel; PartId: 37; Part Status: Active; Price: 0.14; Series: ABLS; Size / Dimension: 0.449" L x 0.185" W (11.40mm x 4.70mm); Supplier 1: DigiKey; Supplier Part Number 1: 535-14928-1-ND; Type: MHz Crystal; Value: 4.9152MHz
footprint ABRACON ABLS
pins: 1, 2

## ABLS-4.9152MHZ-D-4-Y-T
designator Y?, comment 4.9152MHz
CRYSTAL 4.9152MHZ 18PF SMD; Part Number: ABLS-4.9152MHZ-D-4-Y-T; Manufacturer: Abracon LLC; ESR (Equivalent Series Resistance): 180 Ohms; Frequency Stability: ±30ppm; Operating Mode: Fundamental; ComponentLink1Description: Datasheet; ComponentLink1URL: https://abracon.com/Resonators/abls.pdf; ComponentLink2Description: DigiKey Link; ComponentLink2URL: http://digikey.com/product-detail/en/abracon-llc/ABLS-4.9152MHZ-D-4-Y-T/535-14929-1-ND/9998006; Frequency: 4.9152MHz; Frequency Tolerance: ±30ppm; Height - Seated (Max): 0.165" (4.20mm); LastUpdated: 9/2/2020 1:21:46 AM; Lifecycle Status: Active; Load Capacitance: 18pF; Minimum Order: 1; Mounting Type: Surface Mount; Operating Temperature: -40°C ~ 85°C; Package / Case: HC-49/US; Packaging: TapeAndReel; PartId: 52; Part Status: Active; Price: 0.20; Series: ABLS; Size / Dimension: 0.449" L x 0.185" W (11.40mm x 4.70mm); Supplier 1: DigiKey; Supplier Part Number 1: 535-14929-1-ND; Type: MHz Crystal; Value: 4.9152MHz
footprint ABRACON ABLS
pins: 1, 2

## ABLS-4.9152MHZ-D-T
designator Y?, comment 4.9152MHz
CRYSTAL 4.9152MHZ 18PF SMD; Part Number: ABLS-4.9152MHZ-D-T; Manufacturer: Abracon LLC; ESR (Equivalent Series Resistance): 180 Ohms; Frequency Stability: ±50ppm; Operating Mode: Fundamental; ComponentLink1Description: Datasheet; ComponentLink1URL: https://abracon.com/Resonators/abls.pdf; ComponentLink2Description: DigiKey Link; ComponentLink2URL: http://digikey.com/product-detail/en/abracon-llc/ABLS-4.9152MHZ-D-T/535-14360-1-ND/8582121; Frequency: 4.9152MHz; Frequency Tolerance: ±50ppm; Height - Seated (Max): 0.165" (4.20mm); LastUpdated: 9/2/2020 1:21:46 AM; Lifecycle Status: Active; Load Capacitance: 18pF; Minimum Order: 1; Mounting Type: Surface Mount; Operating Temperature: -40°C ~ 85°C; Package / Case: HC-49/US; Packaging: TapeAndReel; PartId: 15; Part Status: Active; Price: 0.24; Series: ABLS; Size / Dimension: 0.449" L x 0.185" W (11.40mm x 4.70mm); Supplier 1: DigiKey; Supplier Part Number 1: 535-14360-1-ND; Type: MHz Crystal; Value: 4.9152MHz
footprint ABRACON ABLS
pins: 1, 2

## ABLS-4.9152MHZ-K4T
designator Y?, comment 4.9152MHz
CRYSTAL 4.9152MHZ 18PF SMD; Part Number: ABLS-4.9152MHZ-K4T; Manufacturer: Abracon LLC; ESR (Equivalent Series Resistance): 180 Ohms; Frequency Stability: ±50ppm; Frequency Tolerance: ±30ppm; Operating Mode: Fundamental; ComponentLink1Description: Datasheet; ComponentLink1URL: https://abracon.com/Resonators/abls.pdf; ComponentLink2Description: DigiKey Link; ComponentLink2URL: http://digikey.com/product-detail/en/abracon-llc/ABLS-4.9152MHZ-K4T/535-9932-1-ND/2001555; Frequency: 4.9152MHz; Height - Seated (Max): 0.165" (4.20mm); LastUpdated: 9/2/2020 1:21:44 AM; Lifecycle Status: Active; Load Capacitance: 18pF; Minimum Order: 1; Mounting Type: Surface Mount; Operating Temperature: -40°C ~ 125°C; Package / Case: HC-49/US; Packaging: TapeAndReel; PartId: 212; Part Status: Active; Price: 0.41; Series: ABLS; Size / Dimension: 0.449" L x 0.185" W (11.40mm x 4.70mm); Supplier 1: DigiKey; Supplier Part Number 1: 535-9932-1-ND; Type: MHz Crystal; Value: 4.9152MHz
footprint ABRACON ABLS
pins: 1, 2

## ABLS-4.9152MHZ-T
designator Y?, comment 4.9152MHz
CRYSTAL 4.9152MHZ 18PF SMD; Part Number: ABLS-4.9152MHZ-T; Manufacturer: Abracon LLC; ESR (Equivalent Series Resistance): 180 Ohms; Frequency Stability: ±50ppm; Operating Mode: Fundamental; ComponentLink1Description: Datasheet; ComponentLink1URL: https://abracon.com/Resonators/abls.pdf; ComponentLink2Description: DigiKey Link; ComponentLink2URL: http://digikey.com/product-detail/en/abracon-llc/ABLS-4.9152MHZ-T/535-13442-1-ND/5980118; Frequency: 4.9152MHz; Frequency Tolerance: ±50ppm; Height - Seated (Max): 0.165" (4.20mm); LastUpdated: 9/2/2020 1:21:45 AM; Lifecycle Status: Active; Load Capacitance: 18pF; Minimum Order: 0; Mounting Type: Surface Mount; Package / Case: HC-49/US; Packaging: TapeAndReel; PartId: 114; Part Status: Active; Price: 0.18; Series: ABLS; Size / Dimension: 0.449" L x 0.185" W (11.40mm x 4.70mm); Supplier 1: DigiKey; Supplier Part Number 1: 535-13442-1-ND; Type: MHz Crystal; Value: 4.9152MHz
footprint ABRACON ABLS
pins: 1, 2

## ABLS-4.194304MHZ-12-B-4-Y-T
designator Y?, comment 4.194304MHz
CRYSTAL 4.194304MHZ 12PF SMD; Part Number: ABLS-4.194304MHZ-12-B-4-Y-T; Manufacturer: Abracon LLC; ESR (Equivalent Series Resistance): 180 Ohms; Frequency Stability: ±30ppm; Operating Mode: Fundamental; ComponentLink1Description: Datasheet; ComponentLink1URL: https://abracon.com/Resonators/abls.pdf; ComponentLink2Description: DigiKey Link; ComponentLink2URL: http://digikey.com/product-detail/en/abracon-llc/ABLS-4.194304MHZ-12-B-4-Y-T/535-14924-1-ND/9998001; Frequency: 4.194304MHz; Frequency Tolerance: ±30ppm; Height - Seated (Max): 0.165" (4.20mm); LastUpdated: 9/2/2020 1:21:45 AM; Lifecycle Status: Active; Load Capacitance: 12pF; Minimum Order: 1; Mounting Type: Surface Mount; Operating Temperature: -20°C ~ 70°C; Package / Case: HC-49/US; Packaging: TapeAndReel; PartId: 149; Part Status: Active; Price: 0.34; Series: ABLS; Size / Dimension: 0.449" L x 0.185" W (11.40mm x 4.70mm); Supplier 1: DigiKey; Supplier Part Number 1: 535-14924-1-ND; Type: MHz Crystal; Value: 4.194304MHz
footprint ABRACON ABLS
pins: 1, 2

## ABLS-4.194304MHZ-B4-T
designator Y?, comment 4.194304MHz
CRYSTAL 4.194304MHZ 18PF SMD; Part Number: ABLS-4.194304MHZ-B4-T; Manufacturer: Abracon LLC; ESR (Equivalent Series Resistance): 180 Ohms; Frequency Stability: ±50ppm; Frequency Tolerance: ±30ppm; Operating Mode: Fundamental; ComponentLink1Description: Datasheet; ComponentLink1URL: https://abracon.com/Resonators/abls.pdf; ComponentLink2Description: DigiKey Link; ComponentLink2URL: http://digikey.com/product-detail/en/abracon-llc/ABLS-4.194304MHZ-B4-T/535-10203-1-ND/2184238; Frequency: 4.194304MHz; Height - Seated (Max): 0.165" (4.20mm); LastUpdated: 9/2/2020 1:21:45 AM; Lifecycle Status: Active; Load Capacitance: 18pF; Minimum Order: 1; Mounting Type: Surface Mount; Operating Temperature: -20°C ~ 70°C; Package / Case: HC-49/US; Packaging: TapeAndReel; PartId: 107; Part Status: Active; Price: 0.18; Series: ABLS; Size / Dimension: 0.449" L x 0.185" W (11.40mm x 4.70mm); Supplier 1: DigiKey; Supplier Part Number 1: 535-10203-1-ND; Type: MHz Crystal; Value: 4.194304MHz
footprint ABRACON ABLS
pins: 1, 2

## ABLS-4.194304MHZ-D-4-Y-T
designator Y?, comment 4.194304MHz
CRYSTAL 4.194304MHZ 18PF SMD; Part Number: ABLS-4.194304MHZ-D-4-Y-T; Manufacturer: Abracon LLC; ESR (Equivalent Series Resistance): 180 Ohms; Frequency Stability: ±30ppm; Operating Mode: Fundamental; ComponentLink1Description: Datasheet; ComponentLink1URL: https://abracon.com/Resonators/abls.pdf; ComponentLink2Description: DigiKey Link; ComponentLink2URL: http://digikey.com/product-detail/en/abracon-llc/ABLS-4.194304MHZ-D-4-Y-T/535-14925-1-ND/9998002; Frequency: 4.194304MHz; Frequency Tolerance: ±30ppm; Height - Seated (Max): 0.165" (4.20mm); LastUpdated: 9/2/2020 1:21:45 AM; Lifecycle Status: Active; Load Capacitance: 18pF; Minimum Order: 1; Mounting Type: Surface Mount; Operating Temperature: -40°C ~ 85°C; Package / Case: HC-49/US; Packaging: TapeAndReel; PartId: 87; Part Status: Active; Price: 0.30; Series: ABLS; Size / Dimension: 0.449" L x 0.185" W (11.40mm x 4.70mm); Supplier 1: DigiKey; Supplier Part Number 1: 535-14925-1-ND; Type: MHz Crystal; Value: 4.194304MHz
footprint ABRACON ABLS
pins: 1, 2

## ABLS-4.433619MHZ-B4-T
designator Y?, comment 4.433619MHz
CRYSTAL 4.433619MHZ 18PF SMD; Part Number: ABLS-4.433619MHZ-B4-T; Manufacturer: Abracon LLC; ESR (Equivalent Series Resistance): 180 Ohms; Frequency Stability: ±50ppm; Frequency Tolerance: ±30ppm; Operating Mode: Fundamental; ComponentLink1Description: Datasheet; ComponentLink1URL: https://abracon.com/Resonators/abls.pdf; ComponentLink2Description: DigiKey Link; ComponentLink2URL: http://digikey.com/product-detail/en/abracon-llc/ABLS-4.433619MHZ-B4-T/535-10204-1-ND/2184239; Frequency: 4.433619MHz; Height - Seated (Max): 0.165" (4.20mm); LastUpdated: 9/2/2020 1:21:45 AM; Lifecycle Status: Active; Load Capacitance: 18pF; Minimum Order: 1; Mounting Type: Surface Mount; Operating Temperature: -20°C ~ 70°C; Package / Case: HC-49/US; Packaging: TapeAndReel; PartId: 159; Part Status: Active; Price: 0.18; Series: ABLS; Size / Dimension: 0.449" L x 0.185" W (11.40mm x 4.70mm); Supplier 1: DigiKey; Supplier Part Number 1: 535-10204-1-ND; Type: MHz Crystal; Value: 4.433619MHz
footprint ABRACON ABLS
pins: 1, 2

## ABLS-5.000MHZ-B2-T
designator Y?, comment 5MHz
CRYSTAL 5.0000MHZ 18PF SMD; Part Number: ABLS-5.000MHZ-B2-T; Manufacturer: Abracon LLC; ESR (Equivalent Series Resistance): 120 Ohms; Frequency Stability: ±50ppm; Frequency Tolerance: ±20ppm; Operating Mode: Fundamental; ComponentLink1Description: Datasheet; ComponentLink1URL: https://abracon.com/Resonators/abls.pdf; ComponentLink2Description: DigiKey Link; ComponentLink2URL: http://digikey.com/product-detail/en/abracon-llc/ABLS-5.000MHZ-B2-T/535-9087-1-ND/675604; Frequency: 5MHz; Height - Seated (Max): 0.165" (4.20mm); LastUpdated: 9/2/2020 1:21:45 AM; Lifecycle Status: Active; Load Capacitance: 18pF; Minimum Order: 1; Mounting Type: Surface Mount; Operating Temperature: -20°C ~ 70°C; Package / Case: HC-49/US; Packaging: TapeAndReel; PartId: 185; Part Status: Active; Price: 0.24; Series: ABLS; Size / Dimension: 0.449" L x 0.185" W (11.40mm x 4.70mm); Supplier 1: DigiKey; Supplier Part Number 1: 535-9087-1-ND; Type: MHz Crystal; Value: 5MHz
footprint ABRACON ABLS
pins: 1, 2

## ABLS-5.000MHZ-B4-T
designator Y?, comment 5MHz
CRYSTAL 5.0000MHZ 18PF SMD; Part Number: ABLS-5.000MHZ-B4-T; Manufacturer: Abracon LLC; ESR (Equivalent Series Resistance): 120 Ohms; Frequency Stability: ±50ppm; Frequency Tolerance: ±30ppm; Operating Mode: Fundamental; ComponentLink1Description: Datasheet; ComponentLink1URL: https://abracon.com/Resonators/abls.pdf; ComponentLink2Description: DigiKey Link; ComponentLink2URL: http://digikey.com/product-detail/en/abracon-llc/ABLS-5.000MHZ-B4-T/535-10207-1-ND/2184242; Frequency: 5MHz; Height - Seated (Max): 0.165" (4.20mm); LastUpdated: 9/2/2020 1:21:45 AM; Lifecycle Status: Active; Load Capacitance: 18pF; Minimum Order: 1; Mounting Type: Surface Mount; Operating Temperature: -20°C ~ 70°C; Package / Case: HC-49/US; Packaging: TapeAndReel; PartId: 118; Part Status: Active; Price: 0.18; Series: ABLS; Size / Dimension: 0.449" L x 0.185" W (11.40mm x 4.70mm); Supplier 1: DigiKey; Supplier Part Number 1: 535-10207-1-ND; Type: MHz Crystal; Value: 5MHz
footprint ABRACON ABLS
pins: 1, 2

## ABLS-5.000MHZ-K4T
designator Y?, comment 5MHz
CRYSTAL 5.0000MHZ 18PF SMD; Part Number: ABLS-5.000MHZ-K4T; Manufacturer: Abracon LLC; ESR (Equivalent Series Resistance): 120 Ohms; Frequency Stability: ±50ppm; Frequency Tolerance: ±30ppm; Operating Mode: Fundamental; ComponentLink1Description: Datasheet; ComponentLink1URL: https://abracon.com/Resonators/abls.pdf; ComponentLink2Description: DigiKey Link; ComponentLink2URL: http://digikey.com/product-detail/en/abracon-llc/ABLS-5.000MHZ-K4T/535-9933-1-ND/2001556; Frequency: 5MHz; Height - Seated (Max): 0.165" (4.20mm); LastUpdated: 9/2/2020 1:21:44 AM; Lifecycle Status: Active; Load Capacitance: 18pF; Minimum Order: 1; Mounting Type: Surface Mount; Operating Temperature: -40°C ~ 125°C; Package / Case: HC-49/US; Packaging: TapeAndReel; PartId: 246; Part Status: Active; Price: 0.41; Series: ABLS; Size / Dimension: 0.449" L x 0.185" W (11.40mm x 4.70mm); Supplier 1: DigiKey; Supplier Part Number 1: 535-9933-1-ND; Type: MHz Crystal; Value: 5MHz
footprint ABRACON ABLS
pins: 1, 2

## ABLS-5.000MHZ-L4Q-T
designator Y?, comment 5MHz
CRYSTAL 5.0000MHZ 18PF SMD; Part Number: ABLS-5.000MHZ-L4Q-T; Manufacturer: Abracon LLC; ESR (Equivalent Series Resistance): 120 Ohms; Frequency Stability: ±100ppm; Frequency Tolerance: ±30ppm; Operating Mode: Fundamental; ComponentLink1Description: Datasheet; ComponentLink1URL: https://abracon.com/Resonators/abls.pdf; ComponentLink2Description: DigiKey Link; ComponentLink2URL: http://digikey.com/product-detail/en/abracon-llc/ABLS-5.000MHZ-L4Q-T/535-9897-1-ND/2001520; Frequency: 5MHz; Height - Seated (Max): 0.165" (4.20mm); LastUpdated: 9/2/2020 1:21:46 AM; Lifecycle Status: Active; Load Capacitance: 18pF; Minimum Order: 1; Mounting Type: Surface Mount; Operating Temperature: -55°C ~ 125°C; Package / Case: HC-49/US; Packaging: TapeAndReel; PartId: 5; Part Status: Active; Price: 0.42; Series: ABLS; Size / Dimension: 0.449" L x 0.185" W (11.40mm x 4.70mm); Supplier 1: DigiKey; Supplier Part Number 1: 535-9897-1-ND; Type: MHz Crystal; Value: 5MHz
footprint ABRACON ABLS
pins: 1, 2